# Altium schematic symbol library Discrete_Diodes_Rectifier_GOST.SchLib: 2 symbols
Pins are listed as number, name and electrical type; pins without a type are passive.

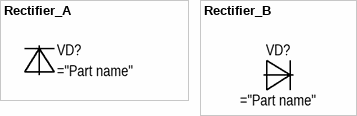
[diagram p0: symbols Rectifier_A to Rectifier_B]

## Rectifier_A
designator VD?
pins: 1, 2

## Rectifier_B
designator VD?
pins: 1, 2